# Altium footprint library 3Delight.PcbLib: 131 footprints (part 4 of 9)
Each footprint in its own frame and in the unit in brackets; x right, y up, seen from the top. Pads: shape width x height; smd on the part's side, far side on the other; paste and mask are expansions set on the pad; w line width, h text height; cw(c..) or ccw(c..) is an arc to the next point about the centre after c.
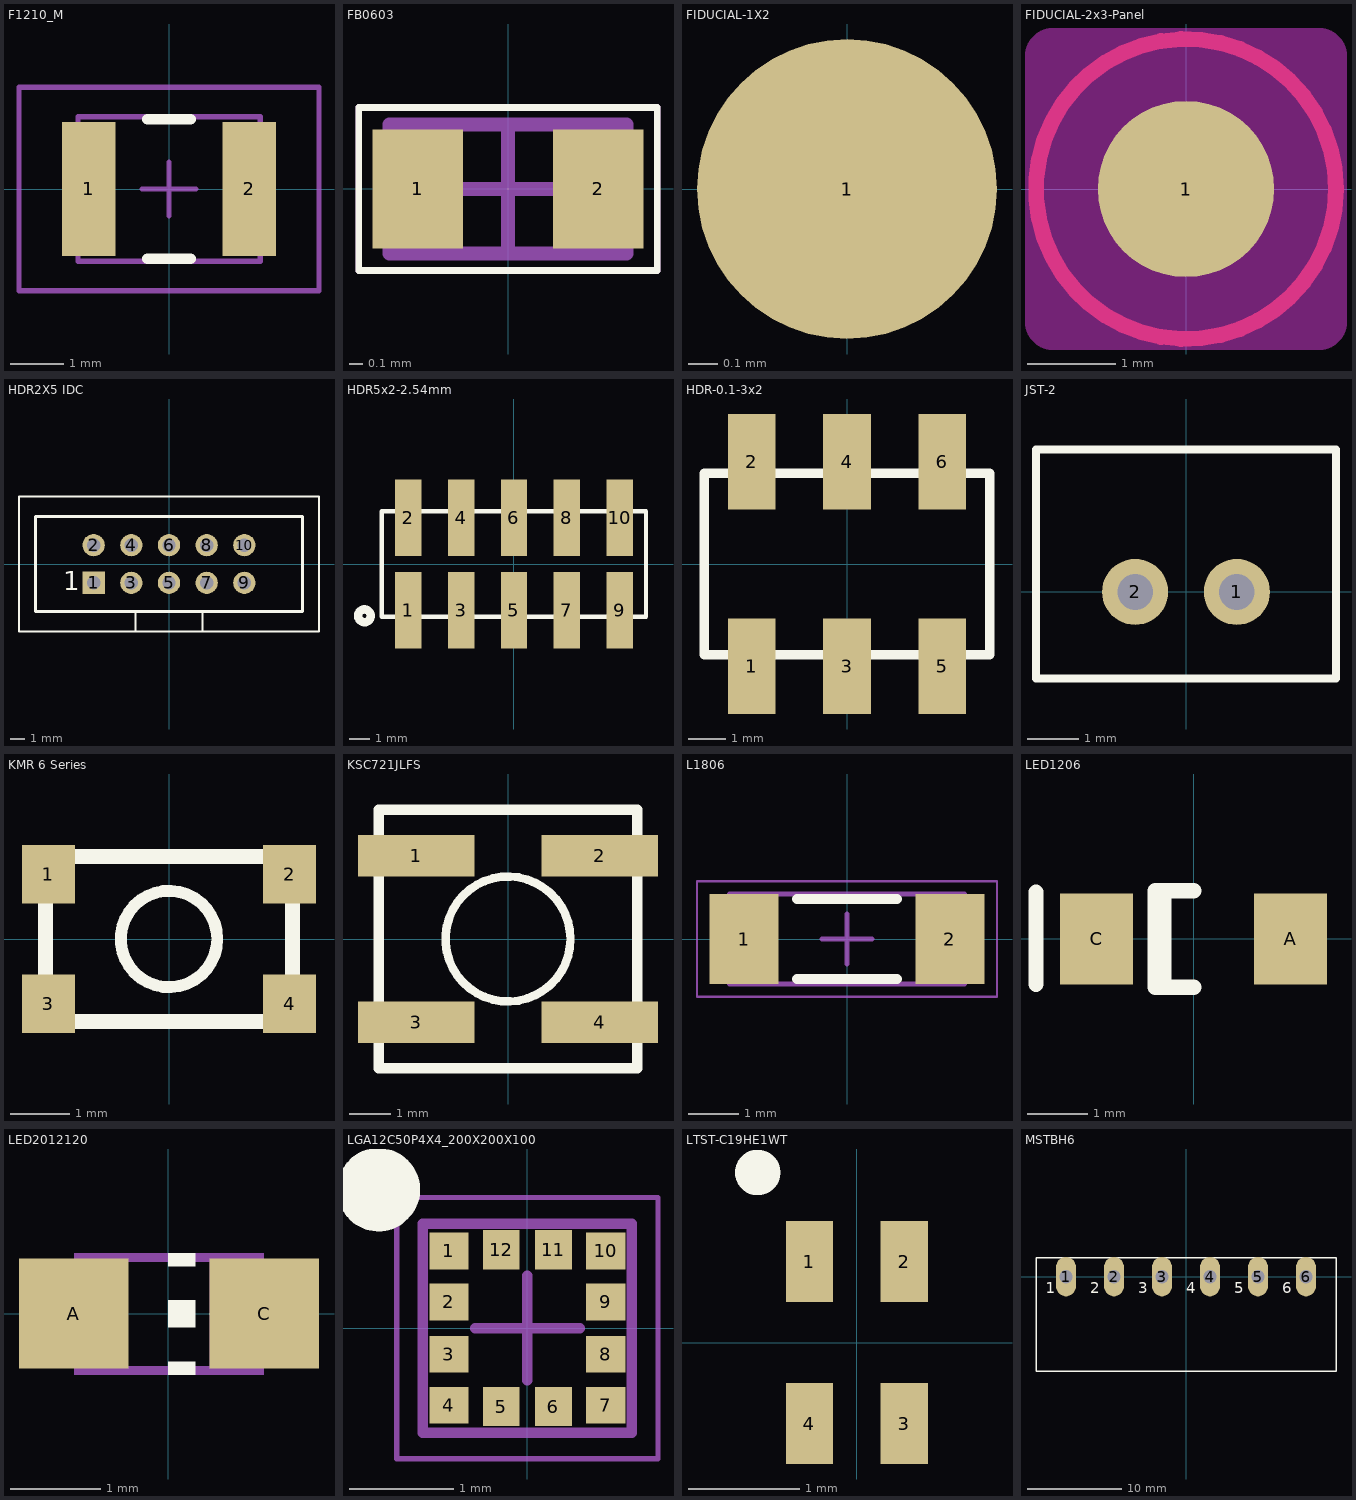
[diagram p3: the footprints below, top view; thin cyan lines are the x and y axes]

## F1210_M [mm] "Bournes PTC Fuse"
height 1.5
pads (2):
  rect 1x2.5 smd: 1(-1.5,0) 2(1.5,0)
Top Overlay:
  lines w0.2: -0.4,-1.3 0.4,-1.3 ; -0.4,1.3 0.4,1.3
Mechanical 13:
  lines w0.1: -1.7,-1.35 1.7,-1.35 1.7,1.35 -1.7,1.35 -1.7,-1.35
Top Courtyard:
  lines w0.1: -0.5,0 0.5,0 ; 0,-0.5 0,0.5 ; -2.8,-1.9 2.8,-1.9 2.8,1.9 -2.8,1.9 -2.8,-1.9
3D body: height 0.85, standoff 0, extent -1.7,-1.35 1.7,1.4

## FB0603 [mm] "Ferrite Bead, Samsung CIS10P High Current Series"
height 0.95
pads (2):
  rect 0.67x0.88 smd: 1(-0.665,0) 2(0.665,0)
Top Overlay:
  lines w0.05: -1.1,-0.6 -1.1,0.6 1.1,0.6 1.1,-0.6 -1.1,-0.6
Mechanical 13:
  lines w0.1: -0.875,-0.475 0.875,-0.475 0.875,0.475 -0.875,0.475 -0.875,-0.475
Top Courtyard:
  lines w0.05: -1.1,-0.6 1.1,-0.6 1.1,0.6 -1.1,0.6 -1.1,-0.6
  lines w0.1: -0.475,0 0.475,0 ; 0,-0.475 0,0.475
3D body "FB0603.step": height 0.95, standoff 0, extent -0.875,-0.475 0.875,0.475

## FIDUCIAL-1X2 [mil]
pads (1):
  rrect100% 40x40 smd paste-3897.64 mask+20: 1(0,0)
3D body: height 0.79, standoff 0, extent -19.84,-19.96 20.01,19.97

## FIDUCIAL-2x3-Panel [mm]
pads (1):
  rrect100% 2x2 smd paste+0 mask+0.508: 1(0,0)
Top Layer:
  circle w0.178: c0,0 r1.7
Keep-Out Layer:
  region: -1.5,-1.7 -1.54,-1.7 -1.613,-1.67 -1.67,-1.613 -1.7,-1.54 -1.7,-1.5 -1.7,1.5 -1.7,1.54 -1.67,1.613 -1.613,1.67 -1.54,1.7 -1.5,1.7 1.5,1.7 1.54,1.7 1.613,1.67 1.67,1.613 1.7,1.54 1.7,1.5 1.7,-1.5 1.7,-1.54 1.67,-1.613 1.613,-1.67 1.54,-1.7 1.5,-1.7
  lines w0.254: -1.7,-1.5 ccw(c-1.5,-1.5) -1.5,-1.7 1.5,-1.7 ccw(c1.5,-1.5) 1.7,-1.5 1.7,1.5 ccw(c1.5,1.5) 1.5,1.7 -1.5,1.7 ccw(c-1.5,1.5) -1.7,1.5 -1.7,-1.5
3D body: height 0.02, standoff 0, extent -0.504,-0.507 0.508,0.507
3D body: height 0.01, standoff 0, extent -1.008,-1.014 1.016,1.014

## HDR2X5 IDC [mm] "Connector; Header; 5x2 Position"
pads (10):
  rect 1.5x1.5 hole 0.9: 1(-5.08,-1.27)
  round 1.5 hole 0.9: 2(-5.08,1.27) 3(-2.54,-1.27) 4(-2.54,1.27) 5(0,-1.27) 6(0,1.27) 7(2.54,-1.27) 8(2.54,1.27) 9(5.08,-1.27) 10(5.08,1.27)
Top Overlay:
  lines w0.152: -2.25,-4.55 -2.25,-3.2 ; 2.25,-4.55 2.25,-3.2 ; -10.11,-4.55 10.11,-4.55 10.11,4.55 -10.11,4.55 -10.11,-4.55
  lines w0.2: -9.01,-3.2 9.01,-3.2 9.01,3.2 -9.01,3.2 -9.01,-3.2
  text "1" at -7.112,-1.778 h1.27
Mechanical 1:
  lines w0.152: -5.33,-1.52 -4.83,-1.52 -4.83,-1.02 -5.33,-1.02 -5.33,-1.52 ; -5.33,1.02 -4.83,1.02 -4.83,1.52 -5.33,1.52 -5.33,1.02 ; -2.79,-1.52 -2.29,-1.52 -2.29,-1.02 -2.79,-1.02 -2.79,-1.52 ; -2.79,1.02 -2.29,1.02 -2.29,1.52 -2.79,1.52 -2.79,1.02 ; -0.25,-1.52 0.25,-1.52 0.25,-1.02 -0.25,-1.02 -0.25,-1.52 ; -0.25,1.02 0.25,1.02 0.25,1.52 -0.25,1.52 -0.25,1.02 ; 2.29,-1.52 2.79,-1.52 2.79,-1.02 2.29,-1.02 2.29,-1.52 ; 2.29,1.02 2.79,1.02 2.79,1.52 2.29,1.52 2.29,1.02 ; 4.83,-1.52 5.33,-1.52 5.33,-1.02 4.83,-1.02 4.83,-1.52 ; 4.83,1.02 5.33,1.02 5.33,1.52 4.83,1.52 4.83,1.02
3D body: height 9.1, standoff -3.1, extent 4.831,1.021 5.329,1.519
3D body: height 9.1, standoff -3.1, extent 2.291,1.021 2.789,1.519
3D body: height 9.1, standoff -3.1, extent 4.831,-1.519 5.329,-1.021
3D body: height 9.1, standoff -3.1, extent 2.291,-1.519 2.789,-1.021
3D body: height 9.1, standoff -3.1, extent -0.249,1.021 0.249,1.519
3D body: height 9.1, standoff -3.1, extent -2.789,1.021 -2.291,1.519
3D body: height 9.1, standoff -3.1, extent -5.329,1.021 -4.831,1.519
3D body: height 9.1, standoff -3.1, extent -0.249,-1.519 0.249,-1.021
3D body: height 9.1, standoff -3.1, extent -5.329,-1.519 -4.831,-1.021
3D body: height 9.1, standoff -3.1, extent -2.789,-1.519 -2.291,-1.021
3D body: height 9.1, standoff 0, extent -10.109,-4.549 10.109,4.549
3D body: height 2, standoff 0, extent -10.186,-4.626 10.186,4.626

## HDR5x2-2.54mm [mil] "Header 5x2 2.54mm"
pads (10):
  rect 50x145 smd paste-75: 1(-200,-87.5) 2(-200,87.5) 3(-100,-87.5) 4(-100,87.5) 5(0,-87.5) 6(0,87.5) 7(100,-87.5) 8(100,87.5) 9(200,-87.5) 10(200,87.5)
Top Overlay:
  circle w16: c-283,-98 r12.08
  lines w8: -250,-100 250,-100 250,100 -250,100 -250,-100
3D body: height 381.89, standoff 0, extent -254,-104 254,104

## HDR-0.1-3x2 [mm] "HDR-0.1-3x2"
pads (6):
  rect 1.27x2.54 smd paste+0: 1(-2.54,-2.73) 2(-2.54,2.73) 3(0,-2.73) 4(0,2.73) 5(2.54,-2.73) 6(2.54,2.73)
Top Overlay:
  lines w0.254: -3.81,-2.415 3.81,-2.415 3.81,2.415 -3.81,2.415 -3.81,-2.415
3D body: height 9.65, standoff 0, extent -3.809,-2.414 3.809,2.414

## JST-2 [mm]
pads (2):
  round 1.3 hole 0.7 paste-99: 1(1,0) 2(-1,0)
Top Overlay:
  lines w0.152: -2.95,-1.7 2.95,-1.7 2.95,2.8 -2.95,2.8 -2.95,-1.7
3D body: height 8, standoff 0, extent -3.026,-1.776 3.026,2.876

## KMR 6 Series [mm] "Tactile Switch SPST-NO Top Actuated Surface Mount"
pads (4):
  rect 0.9x1 smd: 1(-2.05,1.1) 2(2.05,1.1) 3(-2.05,-1.1) 4(2.05,-1.1)
Top Overlay:
  circle w0.203: c0,0 r0.82
  lines w0.254: -2.1,-1.4 -2.1,1.4 2.1,1.4 2.1,-1.4 -2.1,-1.4
3D body: height 1.9, standoff 0, extent -0.819,-0.819 0.819,0.819
3D body: height 1.4, standoff 0, extent -2.099,-1.399 2.099,1.399

## KSC721JLFS [mm]
pads (4):
  rect 2.8x1 smd: 1(-2.2,2) 2(2.2,2) 3(-2.2,-2) 4(2.2,-2)
Top Overlay:
  circle w0.203: c0,0 r1.5
  lines w0.254: -3.1,-3.1 3.1,-3.1 3.1,3.1 -3.1,3.1 -3.1,-3.1
3D body: height 4.3, standoff 2.9, extent -1.499,-1.499 1.499,1.499
3D body: height 2.9, standoff 0.1, extent -3.099,-3.099 3.099,3.099

## L1806 [mm] "Chip Inductor, 2-Leads, Body 4.50x1.60mm, IPC Medium Density"
height 1.8
pads (2):
  rect 1.38x1.8 smd: 1(-2.06,0) 2(2.06,0)
Top Overlay:
  lines w0.2: -1,-0.8 1,-0.8 ; -1,0.8 1,0.8
Mechanical 13:
  lines w0.1: -2.35,-0.9 -2.35,0.9 2.35,0.9 2.35,-0.9 -2.35,-0.9
Top Courtyard:
  lines w0.05: -3,-1.15 -3,1.15 3,1.15 3,-1.15 -3,-1.15
  lines w0.1: -0.5,0 0.5,0 ; 0,-0.5 0,0.5
3D body: height 1.8, standoff 0, extent -1.65,-0.9 1.65,0.9
3D body: height 1.8, standoff 0, extent -2.35,-0.9 -1.65,0.9
3D body: height 1.8, standoff 0, extent 1.65,-0.9 2.35,0.9

## LED1206 [mm]
pads (2):
  rect 1.2x1.5 smd: A(1.6,0) C(-1.6,0)
Top Overlay:
  lines w0.254: -2.6,-0.749 -2.6,0.775 ; -0.492,-0.799 -0.492,0.799 ; 0,-0.799 -0.635,-0.799 -0.635,0.799 0,0.799
3D body: height 0.25, standoff 0, extent -1.6,-0.8 1.6,0.8
3D body: height 0.75, standoff 0.25, extent -1,-0.8 1.025,0.8
3D body: height 0.26, standoff 0.25, extent -1.275,-0.8 -0.925,0.8

## LED2012120 [mil]
pads (2):
  rect 48x48 smd: A(-41.34,0) C(42,0)
Top Overlay:
  region: 0,26.57 0,20.67 12,20.67 12,26.57
  region: 0,-21 0,-27 12,-27 12,-21
  region: 0,5.9 0,-6 12,-6 12,5.9
Top Document:
  region: 18,26.58 18,-27 42,-27 42,26.58
  region: -41.34,26.58 -41.34,-27 -17.72,-27 -17.72,26.57
  lines w4: -18.7,-25 18,-25 ; -17.72,24.61 18,24.61
3D body: height 15.75, standoff 0, extent 20,-10 35,10
3D body: height 27.56, standoff 0, extent -30,-25 30,25
3D body: height 11.81, standoff 0, extent -50,-25 50,25

## LGA12C50P4X4_200X200X100 [mm] "LGA, 12-Leads, Body 2.00x2.00mmx1.00mm, Pitch 0.50mm"
height 1
pads (12):
  rect 0.375x0.35 smd paste-0.01 mask+0.102: 1(-0.75,0.738) 2(-0.75,0.25) 3(-0.75,-0.25) 4(-0.75,-0.738) 7(0.75,-0.738) 8(0.75,-0.25) 9(0.75,0.25) 10(0.75,0.738)
  rect 0.35x0.375 smd paste-0.01 mask+0.102: 5(-0.25,-0.75) 6(0.25,-0.75) 11(0.25,0.75) 12(-0.25,0.75)
Top Overlay:
  circle w0.406: c-1.425,1.325 r0.195
Top Solder:
  rectangle: -1.05,-1.05 1.05,1.05
Mechanical 13:
  lines w0.1: -1,-1 1,-1 1,1 -1,1 -1,-1
Top Courtyard:
  lines w0.05: -1.25,-1.25 1.25,-1.25 1.25,1.25 -1.25,1.25 -1.25,-1.25
  lines w0.1: -0.5,0 0.5,0 ; 0,-0.5 0,0.5
3D body: height 1, standoff 0.2, extent -1,-1 1,1

## LTST-C19HE1WT [mm] "LED RGB DIFFUSED 0606 SMD"
pads (4):
  rect 0.425x0.725 smd: 1(-0.425,0.725) 2(0.425,0.725) 3(0.425,-0.725) 4(-0.425,-0.725)
Top Overlay:
  circle w0.254: c-0.889,1.524 r0.076
3D body: height 0.18, standoff 0, extent -0.8,-0.8 0.8,0.8
3D body: height 0.35, standoff 0, extent -0.8,-0.575 0.8,0.575

## MSTBH6 [mil] "Pluggable terminal block-5.08mm pitch - Horizontal"
pads (6):
  oval 82.5x165 hole 55: 1(-500,0) 2(-300,0) 3(-100,0) 4(100,0) 5(300,0) 6(500,0)
Top Overlay:
  lines w6: -625,-393.7 -625,78.74 625,78.74 625,-393.7 -625,-393.7
  text "1" at -585,-85 h77.5
  text "2" at -400,-85 h77.5
  text "3" at -200,-85 h77.5
  text "4" at 0,-85 h77.5
  text "6" at 400,-85 h77.5
  text "5" at 200,-85 h77.5
Top Document:
  lines w6: -525,-25 -525,25 ; -525,-25 -475,-25 ; -525,-25 -475,25 ; -525,25 -475,25 ; -525,25 -475,-25 ; -475,-25 -475,25 ; -325,-25 -275,-25 ; -325,-25 -325,25 ; -325,-25 -275,25 ; -325,25 -275,25 ; -325,25 -275,-25 ; -275,-25 -275,25 ; -125,-25 -125,25 ; -125,-25 -75,-25 ; -125,-25 -75,25 ; -125,25 -75,25 ; -125,25 -75,-25 ; -75,-25 -75,25 ; 75,-25 75,25 ; 75,-25 125,25 ; 75,-25 125,-25 ; 75,25 125,25 ; 75,25 125,-25 ; 125,-25 125,25 ; 125,-25 125,25 ; 275,-25 325,25 ; 275,-25 325,-25 ; 275,-25 275,25 ; 275,25 325,-25 ; 275,25 325,25 ; 325,-25 325,25
3D body: height 326.77, standoff 0, extent -628,-396.7 628,81.74